# EAGLE library part U643B (library atmega-atxmega)
The L9686 is a two frequency oscillator particularly suitable as relay driver for flashing light control in automotive applications. The circuit may be also used for other warning lamps like ”handbrake on” etc. The lamp failure detection is given by doubling the flash repetition frequency. The L9686 is supplied in minidip 8-lead and SO8 plastic packages.
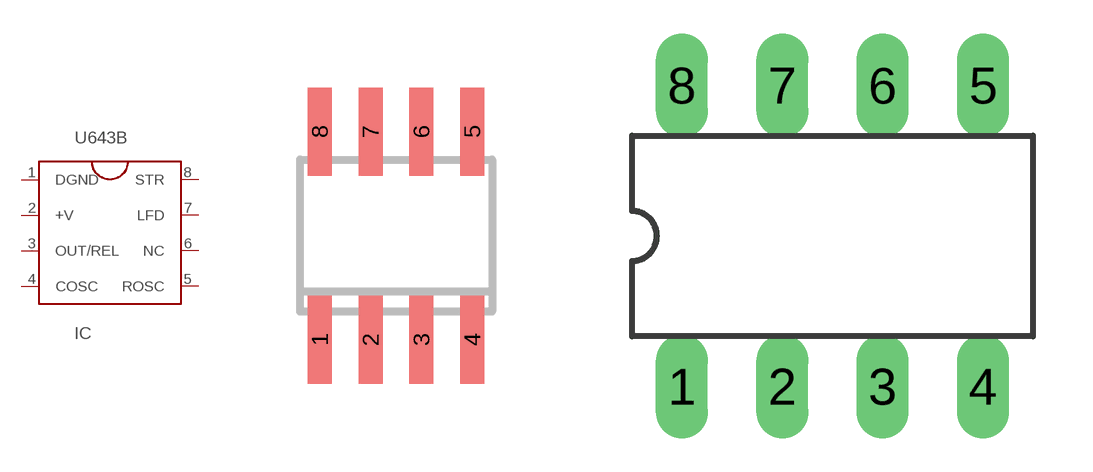
[diagram p156: symbol with the pads of SO08; footprints SO08, DIP08]

Designator prefix IC

## U643BSO8  [SO08]
1  DGND  pwr
2  +V  pwr
3  OUT/REL  out
4  COSC
5  ROSC
6  NC  nc
7  LFD  out
8  STR  in

## U643B  [DIP08]
Pads as for SO08

## Footprint SO08 (pad centres in mm)
SMALL OUTLINE INTEGRATED CIRCUIT body 3.9 mm/JEDEC MS-012AA
smd 0.6 x 2.2: 1 -1.905,-2.6; 2 -0.635,-2.6; 3 0.635,-2.6; 4 1.905,-2.6; 5 1.905,2.6; 6 0.635,2.6; 7 -0.635,2.6; 8 -1.905,2.6

## Footprint DIP08 (pad centres in mm)
Dual In Line
drill 0.813 long: 1 -3.81,-3.81; 2 -1.27,-3.81; 3 1.27,-3.81; 4 3.81,-3.81; 5 3.81,3.81; 6 1.27,3.81; 7 -1.27,3.81; 8 -3.81,3.81